# Altium schematic symbol library Кварцы.SchLib: 2 symbols
Pins are listed as number, name and electrical type; pins without a type are passive.

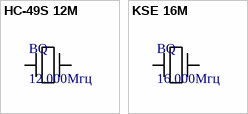
[diagram p0: symbols HC-49S 12M to KSE 16M]

## HC-49S 12M
designator BQ, comment 12.000Мгц
12.000Мгц, HC-49S, Кварцевый резонатор
pins: 1, 2

## KSE 16M
designator BQ, comment 16.000Мгц
16.000Мгц, P/N: KSE-7U16000M9Z143ZA3, Кварцевый резонатор
pins: 1, 3